# Altium integrated library ICs.IntLib: 239 symbols (part 2 of 4)
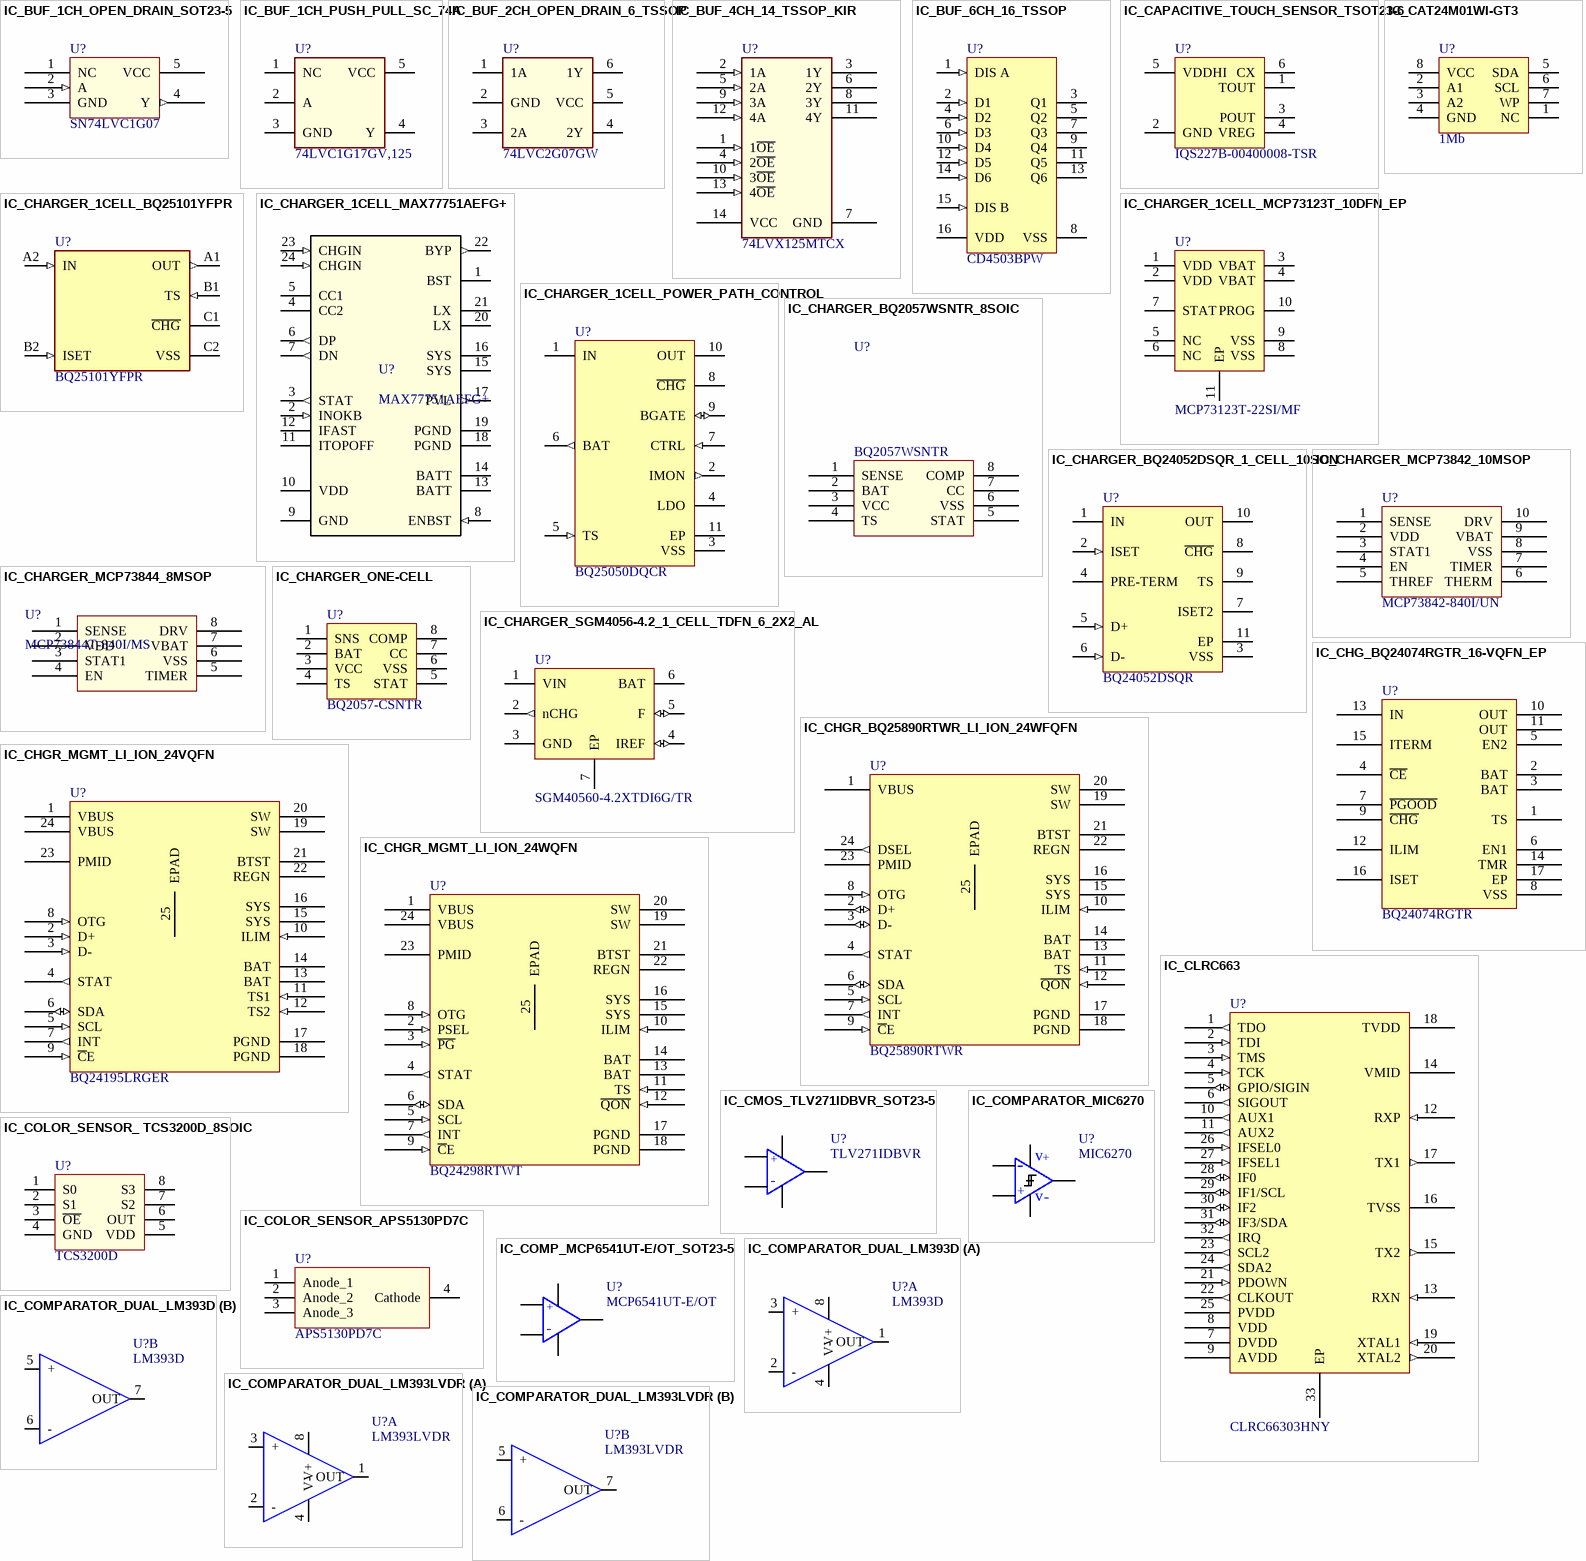
[diagram p10: symbols IC_BUF_1CH_OPEN_DRAIN_SOT23-5 to IC_COMPARATOR_MIC6270]

## IC_COMPARATOR_DUAL_LM393LVDR
designator U?, comment LM393LVDR
1.65-V TO 5.5-V, LOW VOLTAGE DUA; Manufacturer: Texas Instruments; Manufacturer Part Number: LM393LVDR; Supplier 1: Digi-Key; Supplier Part Number 1: 296-LM393LVDRCT-ND; Reel Stock: N/A; Last modified by: J.Jaramillo; Last modified date: 20240310; ComponentLink1Description: Digi-Key; ComponentLink1URL: https://www.digikey.com/en/products/detail/texas-instruments/LM393LVDR/13535466
footprint SOIC_8_3.9mm (/ 20190225 / C-A.Serna.A)
part A pins: 1 OUT, 2 -, 3 +, 4 V-, 8 V+
part B pins: 5 +, 6 -, 7 OUT

## IC_COMPARATOR_MIC6270
designator U?, comment MIC6270
IC COMPARATOR PREC 2-36V SOT23-5; Manufacturer: Microchip Technology; Manufacturer Part Number: MIC6270YM5-TR; Supplier 1: Digi-Key; Supplier Part Number 1: 576-1315-1-ND; Reel Stock: N/A; Last modified by: J.Jaramillo; Last modified date: 20240310; ComponentLink1Description: Digi-Key; ComponentLink1URL: https://www.digikey.com/products/en?keywords=576-1315-1-ND
footprint SOT_753 (SOT-23-5, SC-74A / 20190225 / C-A.Serna.A)
pins: 1 OUT (power), 2 VSS (power), 3 IN+ (power), 4 IN- (power), 5 VDD (power)
text: v; +; -

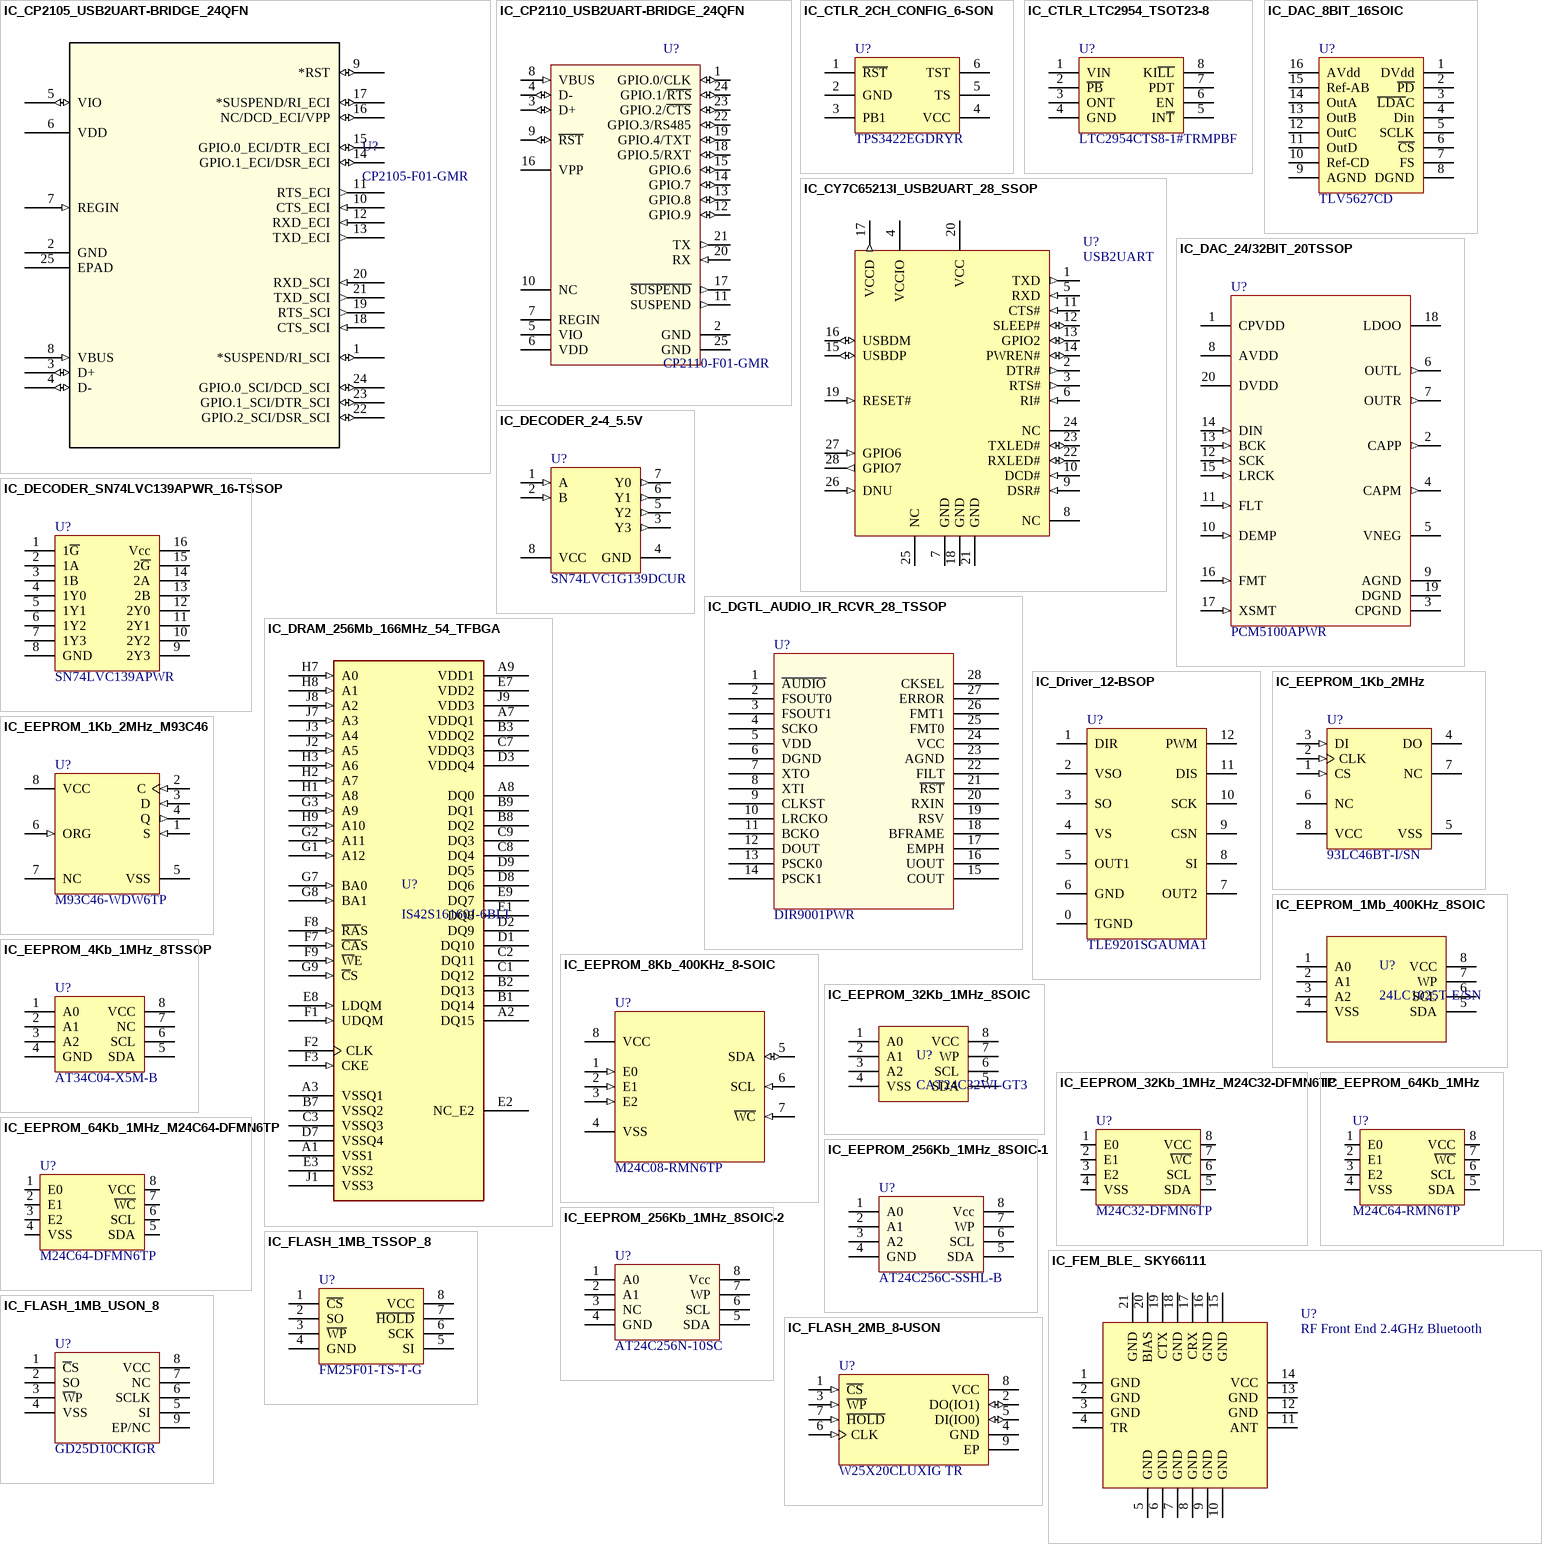
[diagram p2: symbols IC_CP2105_USB2UART-BRIDGE_24QFN to IC_FLASH_2MB_8-USON]

## IC_CP2105_USB2UART-BRIDGE_24QFN
designator U?, comment CP2105-F01-GMR
IC SGL USB-DL UART BRIDGE 24QFN; Manufacturer: Silicon Labs; Manufacturer Part Number: CP2105-F01-GMR; Supplier 1: Digi-Key; Supplier Part Number 1: CP2105-F01-GMRCT-ND; Reel Stock: N/A; Last modified by: J.Jaramillo; Last modified date: 20240310; ComponentLink1Description: Digi-Key; ComponentLink1URL: https://www.digikey.com/en/products/detail/silicon-labs/CP2105-F01-GMR/4069046?s=N4IgTCBcDaIMIAUwEYAMBWAtAMVczA4gLIBKIAugL5A
footprint QFN_24_EP_4x4MM (24-WFQFN_EP/20210809/V-A.Patino)
pins: 1 *SUSPEND/RI_SCI (io), 2 GND (power), 3 D+ (io), 4 D- (io), 5 VIO (io), 6 VDD (power), 7 REGIN (in), 8 VBUS (in), 9 *RST (io), 10 CTS_ECI (in), 11 RTS_ECI (out), 12 RXD_ECI (in), 13 TXD_ECI (out), 14 GPIO.1_ECI/DSR_ECI (io), 15 GPIO.0_ECI/DTR_ECI (io), 16 NC/DCD_ECI/VPP (io), 17 *SUSPEND/RI_ECI (io), 18 CTS_SCI (in), 19 RTS_SCI (out), 20 RXD_SCI (in), 21 TXD_SCI (out), 22 GPIO.2_SCI/DSR_SCI (io), 23 GPIO.1_SCI/DTR_SCI (io), 24 GPIO.0_SCI/DCD_SCI (io), 25 EPAD

## IC_CP2110_USB2UART-BRIDGE_24QFN
designator U?, comment CP2110-F01-GMR
IC HID USB-TO-UART BRIDGE 24QFN; Manufacturer: Silicon Labs; Manufacturer Part Number: CP2110-F01-GMR; Supplier 1: Digi-Key; Supplier Part Number 1: 336-4156-1-ND; Reel Stock: N/A; Last modified by: J.Jaramillo; Last modified date: 20240310; ComponentLink1Description: Digi-Key; ComponentLink1URL: https://www.digikey.com/en/products/detail/silicon-labs/CP2110-F01-GMR/4069049
footprint QFN_24_EP_4x4MM (24-WFQFN_EP/20210809/V-A.Patino)
pins: 1 GPIO.0/CLK (io) "In GPIO mode, this pin is a user-configurable input or output. In CLK mode, this pin outputs a configurable frequency clock signal.", 2 GND (power) "Ground. Must be tied to ground.", 3 D+ (io) "USB D+", 4 D- (io) "USB D-", 5 VIO (power) "I/O Supply Voltage Input. Internally connected to VDD on -GM1 packages.", 6 VDD (power) "Power Supply Voltage Input. Voltage Regulator Output. See Section 10.", 7 REGIN (power) "5 V Regulator Input. This pin is the input to the on-chip voltage regulator.", 8 VBUS (in) "VBUS Sense Input. This pin should be connected to the VBUS signal of a USB network.", 9 ~{RST} (io) "Device Reset. Open-drain output of internal POR or VDD monitor. An external source can initiate a system reset by driving this pin low for the time specified in Table 4.", 10 NC "No connect. This pin should be left unconnected or tied to VIO.", 11 SUSPEND (out) "This pin is logic high when the CP2110 is in the USB Suspend state.", 12 GPIO.9 (io) "This pin is a user-configurable input or output.", 13 GPIO.8 (io) "This pin is a user-configurable input or output.", 14 GPIO.7 (io) "This pin is a user-configurable input or output.", 15 GPIO.6 (io) "This pin is a user-configurable input or output.", 16 VPP "Connect 4.7 uF capacitor between this pin and ground to support ROM programming via the USB interface.", 17 ~{SUSPEND} (out) "This pin is logic low when the CP2110 is in the USB Suspend state.", 18 GPIO.5/RXT (io) "In GPIO mode, this pin is a user-configurable input or output for the Standard Comm Interface. In RXT mode, this pin is the Receive Toggle pin. The pin is logic high when the UART is not receiving data.", 19 GPIO.4/TXT (io) "In GPIO mode, this pin is a user-configurable input or output. In TXT mode, this pin is the Transmit Toggle pin and toggles to indicate UART transmission. The pin is logic high when a transmission is not in progress.", 20 RX (in) "Asynchronous data input (UART Receive) for the UART Interface.", 21 TX (out) "Asynchronous data output (UART Transmit) for the UART Interface.", 22 GPIO.3/RS485 (io) "In GPIO mode, this pin is a user-configurable input or output. In RS-485 mode, this pin is the transmit active pin for the RS-485 transceiver.", 23 GPIO.2/~{CTS} (io) "In GPIO mode, this pin is a user-configurable input or output. In hardware flow control mode, this pin is the Clear To Send control input (active low) for the UART interface.", 24 GPIO.1/~{RTS} (io) "In GPIO mode, this pin is a user-configurable input or output. In hardware flow control mode, this pin is the Ready To Send control output (active low) for the UART interface", 25 GND (power)

## IC_CTLR_2CH_CONFIG_6-SON
designator U?, comment TPS3422EGDRYR
IC CTLR PB 2CH CONFIG 6-SON; Manufacturer: Texas Instruments; Manufacturer Part Number: TPS3422EGDRYR; Supplier 1: Digi-Key; Supplier Part Number 1: 296-40740-1-ND; Reel Stock: N/A; Last modified by: J.Jaramillo; Last modified date: 20240310; ComponentLink1Description: Digi-Key; ComponentLink1URL: https://www.digikey.com/products/en?keywords=296-40740-1-ND
footprint SON_6_1.45x1MM (UFDFN_6/20210405/V-A.Patino)
pins: 1 ~{RST}, 2 GND, 3 PB1, 4 VCC, 5 TS, 6 TST

## IC_CTLR_LTC2954_TSOT23-8
designator U?, comment LTC2954CTS8-1#TRMPBF
IC PB ON/OFF CONTROLLER TSOT23-8; Manufacturer: Linear Technology/Analog Devices; Manufacturer Part Number: LTC2954CTS8-1#TRMPBF; Supplier 1: Digi-Key; Supplier Part Number 1: LTC2954CTS8-1#TRMPBFCT-ND; Reel Stock: N/A; Last modified by: J.Jaramillo; Last modified date: 20240310; ComponentLink1Description: Digi-Key; ComponentLink1URL: https://www.digikey.com/products/en?keywords=LTC2954CTS8-1%23TRMPBFCT-ND
footprint TSOT-23-8_1.8X2.9MM (SOT-23-8 Thin, TSOT-23-8/20210809/N-A.Potosi)
pins: 1 VIN, 2 ~{PB}, 3 ONT, 4 GND, 5 IN~{T}, 6 EN, 7 PDT, 8 KI~{LL}

## IC_CY7C65213I_USB2UART_28_SSOP
designator U?, comment USB2UART
IC USB-SERIAL PART 28SSOP; Manufacturer: Cypress Semiconductor Corp; Manufacturer Part Number: CY7C65213-28PVXI; Supplier 1: Digi-Key; Supplier Part Number 1: CY7C65213-28PVXI-ND; Reel Stock: N/A; Last modified by: J.Jaramillo; Last modified date: 20240310; ComponentLink1Description: Digi-Key; ComponentLink1URL: https://www.digikey.com/en/products/detail/cypress-semiconductor-corp/CY7C65213-28PVXI/4765755
footprint SSOP_28_5.3mm (/ 20210219 / M-C.Calderon)
pins: 1 TXD (out), 2 DTR# (out), 3 RTS# (out), 4 VCCIO, 5 RXD (in), 6 RI# (in), 7 GND (power), 8 NC, 9 DSR# (in), 10 DCD# (in), 11 CTS# (in), 12 SLEEP# (io), 13 GPIO2 (io), 14 PWREN# (io), 15 USBDP (io), 16 USBDM (io), 17 VCCD (out), 18 GND (power), 19 RESET# (in), 20 VCC (power), 21 GND (power), 22 RXLED# (io), 23 TXLED# (io), 24 NC, 25 NC (power), 26 DNU (in), 27 GPIO6 (in), 28 GPIO7 (out)

## IC_DAC_8BIT_16SOIC
designator U?, comment TLV5627CD
IC DAC 8BIT V-OUT 16SOIC; Manufacturer: Texas Instruments; Supplier 1: Digi-key; Supplier Part Number 1: 296-2312-5-ND; Reel Stock: N/A; Last modified by: J.Jaramillo; Last modified date: 20240310; ComponentLink1Description: Digi-key; ComponentLink1URL: https://www.digikey.com/en/products/detail/texas-instruments/TLV5627CD/306185; Manufacturer Part Number: TLV5627CD
footprint SOIC_16_3.9MM (/20201210/M-C.Calderon)
pins: 1 DVdd (power), 2 ~{PD} (power), 3 ~{LDA}C (power), 4 Din (power), 5 SCLK (power), 6 ~{CS} (power), 7 FS (power), 8 DGND (power), 9 AGND (power), 10 Ref-CD (power), 11 OutD (power), 12 OutC (power), 13 OutB (power), 14 OutA (power), 15 Ref-AB (power), 16 AVdd (power)

## IC_DAC_24/32BIT_20TSSOP
designator U?, comment PCM5100APWR
IC DAC 16/24/32BIT 384K 20TSSOP; Manufacturer: Texas Instruments; Manufacturer Part Number: PCM5100APWR; Supplier 1: Digi-Key; Supplier Part Number 1: 296-36705-1-ND; Reel Stock: N/A; Last modified by: J.Jaramillo; Last modified date: 20240310; ComponentLink1Description: Digi-Key; ComponentLink1URL: https://www.digikey.com/en/products/detail/texas-instruments/PCM5100APWR/3902405?s=N4IgTCBcDaIAoGECyBWAjABgwQTgdQCUQBdAXyA
footprint TSSOP_20_4.40MM (20210806/J-E.Pachon)
pins: 1 CPVDD (power), 2 CAPP (out), 3 CPGND (power), 4 CAPM (out), 5 VNEG (power), 6 OUTL (out), 7 OUTR (out), 8 AVDD (power), 9 AGND (power), 10 DEMP (in), 11 FLT (in), 12 SCK (in), 13 BCK (in), 14 DIN (in), 15 LRCK (in), 16 FMT (in), 17 XSMT (in), 18 LDOO (power), 19 DGND (power), 20 DVDD (power)

## IC_DECODER_2-4_5.5V
designator U?, comment SN74LVC1G139DCUR
IC 2 TO 4 LINE DECODER US8; Manufacturer: Texas Instruments; Manufacturer Part Number: SN74LVC1G139DCUR; Supplier 1: Digi-key; Supplier Part Number 1: 296-18203-1-ND; Reel Stock: N/A; Last modified by: J.Jaramillo; Last modified date: 20240310; ComponentLink1Description: Digi-key; ComponentLink1URL: https://www.digikey.com/product-detail/en/texas-instruments/SN74LVC1G139DCUR/296-18203-1-ND/772127
footprint VSSOP_8_2.3X2.0mm_N (US8 / 20190912/ C-D Viveros)
pins: 1 A (in), 2 B (in), 3 Y3 (out), 4 GND (power), 5 Y2 (out), 6 Y1 (out), 7 Y0 (out), 8 VCC (power)

## IC_DECODER_SN74LVC139APWR_16-TSSOP
designator U?, comment SN74LVC139APWR
IC DECODER/DEMUX 1X2:4 16TSSOP; Manufacturer: Texas Instruments; Manufacturer Part Number: SN74LVC139APWR; Supplier 1: Digi-Key; Supplier Part Number 1: 296-8462-1-ND; Reel Stock: N/A; Last modified by: J.Jaramillo; Last modified date: 20240310; ComponentLink1Description: Digi-Key; ComponentLink1URL: https://www.digikey.com/en/products/detail/texas-instruments/SN74LVC139APWR/377428?s=N4IgTCBcDa4JwDYC0AOALAsSCMSByAIiALoC%2BQA
footprint TSSOP_16_4.40MM (/ 20190923 / C-D Viveros)
pins: 1 1~{G}, 2 1A, 3 1B, 4 1Y0, 5 1Y1, 6 1Y2, 7 1Y3, 8 GND, 9 2Y3, 10 2Y2, 11 2Y1, 12 2Y0, 13 2B, 14 2A, 15 2~{G}, 16 Vcc

## IC_DGTL_AUDIO_IR_RCVR_28_TSSOP
designator U?, comment DIR9001PWR
IC AUDIO RECEIVER 28TSSOP; Manufacturer: Texas Instruments; Manufacturer Part Number: DIR9001PWR; Supplier 1: Digi-Key; Supplier Part Number 1: 296-38926-1-ND; Reel Stock: N/A; Last modified by: J.Jaramillo; Last modified date: 20240310; ComponentLink1Description: Digi-Key; ComponentLink1URL: https://www.digikey.com/en/products/detail/texas-instruments/DIR9001PWR/1898367?s=N4IgTCBcDa4JwDYC0BmAHHMyCMSByAIiALoC%2BQA
footprint TSSOP_28_4.40MM (28-TSSOP 4.40mm,MO-153 /20210809/ N-A.Potosi)
pins: 1 ~{AUDIO}, 2 FSOUT0, 3 FSOUT1, 4 SCKO, 5 VDD, 6 DGND, 7 XTO, 8 XTI, 9 CLKST, 10 LRCKO, 11 BCKO, 12 DOUT, 13 PSCK0, 14 PSCK1, 15 COUT, 16 UOUT, 17 EMPH, 18 BFRAME, 19 RSV, 20 RXIN, 21 ~{RST}, 22 FILT, 23 AGND, 24 VCC, 25 FMT0, 26 FMT1, 27 ERROR, 28 CKSEL

## IC_DRAM_256Mb_166MHz_54_TFBGA
designator U?, comment IS42S16160J-6BLI
IC DRAM 256MBIT PAR 54TFBGA; Manufacturer: ISSI, Integrated Silicon Solution Inc; Reel Stock: N/A; Last modified by: J.Jaramillo; Last modified date: 20240310; Supplier 1: Digi-Key; Manufacturer Part Number: IS42S16160J-6BLI; Supplier Part Number 1: IS42S16160J-6BLI-ND; ComponentLink1Description: Digi-Key; ComponentLink1URL: https://www.digikey.com/en/products/detail/issi-integrated-silicon-solution-inc/IS42S16160J-6BLI/5319786
footprint TFBGA-54_8x85mm (/20230731/N-A.Potosi)
pins: A1 VSS1, A2 DQ15, A3 VSSQ1, A7 VDDQ1, A8 DQ0, A9 VDD1, B1 DQ14, B2 DQ13, B3 VDDQ2, B7 VSSQ2, B8 DQ2, B9 DQ1, C1 DQ12, C2 DQ11, C3 VSSQ3, C7 VDDQ3, C8 DQ4, C9 DQ3, D1 DQ10, D2 DQ9, D3 VDDQ4, D7 VSSQ4, D8 DQ6, D9 DQ5, E1 DQ8, E2 NC_E2, E3 VSS2, E7 VDD2, E8 LDQM (in), E9 DQ7, F1 UDQM (in), F2 CLK, F3 CKE (in), F7 ~{CA}S (in), F8 ~{RA}S (in), F9 ~{W}E (in), G1 A12 (in), G2 A11 (in), G3 A9 (in), G7 BA0 (in), G8 BA1 (in), G9 ~{C}S (in), H1 A8 (in), H2 A7 (in), H3 A6 (in), H7 A0 (in), H8 A1 (in), H9 A10 (in), J1 VSS3, J2 A5 (in), J3 A4 (in), J7 A3 (in), J8 A2 (in), J9 VDD3

## IC_Driver_12-BSOP
designator U?, comment TLE9201SGAUMA1
IC DRIVER 12DSO; Manufacturer: Infineon Technologies; Manufacturer Part Number: TLE9201SGAUMA1; Supplier 1: Digi-Key; Supplier Part Number 1: TLE9201SGAUMA1CT-ND; Reel Stock: N/A; Last modified by: J.Jaramillo; Last modified date: 20240310; ComponentLink1Description: Digi-Key; ComponentLink1URL: https://www.digikey.com/en/products/detail/infineon-technologies/TLE9201SGAUMA1/5960696?s=N4IgTCBcDaICoBkCiBOMAGAjAZQOIgF0BfIA
footprint 12BSOP_7.5MM (/20220808/J-E.Pachon)
pins: 0 TGND, 1 DIR, 2 VSO, 3 SO, 4 VS, 5 OUT1, 6 GND, 7 OUT2, 8 SI, 9 CSN, 10 SCK, 11 DIS, 12 PWM

## IC_EEPROM_1Kb_2MHz
designator U?, comment 93LC46BT-I/SN
IC EEPROM 1K SPI 2MHZ 8SOIC; Manufacturer: Microchip Technology; Reel Stock: N/A; Last modified by: J.Jaramillo; Last modified date: 20240310; Supplier 1: Digi-Key; Manufacturer Part Number: 93LC46BT-I/SN; Supplier Part Number 1: 93LC46BT-I/SNCT-ND; ComponentLink1Description: Digi-Key; ComponentLink1URL: https://www.digikey.com/en/products/detail/microchip-technology/93LC46BT-I-SN/319160?s=N4IgTCBcDaIJwGYAyBhALANgEIBUC0AkgPQDKAcivmQCIgC6AvkA
footprint SOIC_8_3.9mm (/ 20190225 / C-A.Serna.A)
pins: 1 CS (in), 2 CLK (in), 3 DI (in), 4 DO (hiz), 5 VSS (power), 6 NC, 7 NC, 8 VCC (power)

## IC_EEPROM_1Kb_2MHz_M93C46
designator U?, comment M93C46-WDW6TP
IC EEPROM 1KBIT SPI 2MHZ 8TSSOP; Manufacturer: STMicroelectronics; Reel Stock: N/A; Last modified by: J.Jaramillo; Last modified date: 20240310; Supplier 1: Digi-Key; Manufacturer Part Number: M93C46-WDW6TP; Supplier Part Number 1: 497-8655-1-ND; ComponentLink1Description: Digi-Key; ComponentLink1URL: https://www.digikey.com/en/products/detail/stmicroelectronics/M93C46-WDW6TP/1664121
footprint TSSOP_8_4.40MM (/ 20210809 / C-D Viveros)
pins: 1 S (in), 2 C (in), 3 D (in), 4 Q (out), 5 VSS (power), 6 ORG (in), 7 NC, 8 VCC (power)

## IC_EEPROM_1Mb_400KHz_8SOIC
designator U?, comment 24LC1025T-E/SN
IC EEPROM 1MBIT I2C 400KHZ 8SOIC; Manufacturer: Microchip Technology; Manufacturer Part Number: 24LC1025T-E/SN; Supplier 1: Digi-Key; Supplier Part Number 1: 24LC1025T-E/SNCT-ND; Reel Stock: N/A; Last modified by: J.Jaramillo; Last modified date: 20240310; ComponentLink1Description: Digi-Key; ComponentLink1URL: https://www.digikey.com/en/products/detail/microchip-technology/24LC1025T-E-SN/2665091
footprint SOIC_8_3.9mm (/ 20190225 / C-A.Serna.A)
pins: 1 A0 (power), 2 A1 (power), 3 A2 (power), 4 VSS (power), 5 SDA (power), 6 SCL (power), 7 WP (power), 8 VCC (power)

## IC_EEPROM_4Kb_1MHz_8TSSOP
designator U?, comment AT34C04-X5M-B
IC EEPROM 4KBIT I2C 1MHZ 8TSSOP; Manufacturer: Microchip Technology; Reel Stock: N/A; Last modified by: J.Jaramillo; Last modified date: 20240310; Supplier 1: Digi-Key; Manufacturer Part Number: AT34C04-X5M-B; Supplier Part Number 1: AT34C04-X5M-B-ND; ComponentLink1Description: Digi-Key; ComponentLink1URL: https://www.digikey.com/en/products/detail/microchip-technology/AT34C04-X5M-B/6829330?s=N4IgTCBcDaIIIBUDMAWAwgBhQWgBoFYBZbAIWwDkAREAXQF8g
footprint TSSOP_8_4.40MM (/ 20210809 / C-D Viveros)
pins: 1 A0, 2 A1, 3 A2, 4 GND, 5 SDA, 6 SCL, 7 NC, 8 VCC

## IC_EEPROM_8Kb_400KHz_8-SOIC
designator U?, comment M24C08-RMN6TP
IC EEPROM 8KBIT I2C 400KHZ 8SO; Manufacturer: STMicroelectronics; Manufacturer Part Number: M24C08-RMN6TP; Supplier 1: Digi-Key; Supplier Part Number 1: 497-8637-1-ND; Reel Stock: N/A; Last modified by: J.Jaramillo; Last modified date: 20240310; ComponentLink1Description: Digi-Key; ComponentLink1URL: https://www.digikey.com/en/products/detail/stmicroelectronics/M24C08-RMN6TP/1663582?s=N4IgTCBcDaICwE4DsBaAHANgMyoIwoDkAREAXQF8g
footprint SOIC_8_3.9mm (/ 20190225 / C-A.Serna.A)
pins: 1 E0 (in), 2 E1 (in), 3 E2 (in), 4 VSS, 5 SDA (io), 6 SCL (in), 7 ~{WC} (in), 8 VCC (power)

## IC_EEPROM_32Kb_1MHz_8SOIC
designator U?, comment CAT24C32WI-GT3
IC EEPROM 32KBIT I2C 1MHZ 8SOIC; Manufacturer: onsemi; Manufacturer Part Number: CAT24C32WI-GT3; Supplier 1: Digi-Key; Supplier Part Number 1: CAT24C32WI-GT3CT-ND; Reel Stock: N/A; Last modified by: J.Jaramillo; Last modified date: 20240310; ComponentLink1Description: Digi-Key; ComponentLink1URL: https://www.digikey.com/en/products/detail/onsemi/CAT24C32WI-GT3/1631007
footprint SOIC_8_3.9mm (/ 20190225 / C-A.Serna.A)
pins: 1 A0 (power), 2 A1 (power), 3 A2 (power), 4 VSS (power), 5 SDA (power), 6 SCL (power), 7 WP (power), 8 VCC (power)

## IC_EEPROM_32Kb_1MHz_M24C32-DFMN6TP
designator U?, comment M24C32-DFMN6TP
IC EEPROM 32KBIT I2C 1MHZ 8SOIC; Manufacturer: STMicroelectronics; Reel Stock: N/A; Last modified by: J.Jaramillo; Last modified date: 20240310; Supplier 1: Digi-Key; Manufacturer Part Number: M24C32-DFMN6TP; Supplier Part Number 1: 497-15755-1-ND; ComponentLink1Description: Digi-Key; ComponentLink1URL: https://www.digikey.com/en/products/detail/stmicroelectronics/M24C32-DFMN6TP/4357387?s=N4IgTCBcDaILJgCwGEDMYC0ARAYnAcgGwAqACiALoC%2BQA
footprint SOIC_8_3.9mm (/ 20190225 / C-A.Serna.A)
pins: 1 E0, 2 E1, 3 E2, 4 VSS, 5 SDA, 6 SCL, 7 ~{WC}, 8 VCC

## IC_EEPROM_64Kb_1MHz
designator U?, comment M24C64-RMN6TP
IC EEPROM 64KBIT I2C 1MHZ 8SO; Manufacturer: STMicroelectronics; Reel Stock: N/A; Last modified by: J.Jaramillo; Last modified date: 20240310; Supplier 1: Digi-Key; Manufacturer Part Number: M24C64-RMN6TP; Supplier Part Number 1: 497-8648-1-ND; ComponentLink1Description: Digi-Key; ComponentLink1URL: https://www.digikey.com/en/products/detail/stmicroelectronics/M24C64-RMN6TP/1663609
footprint SOIC_8_3.9mm (/ 20190225 / C-A.Serna.A)
pins: 1 E0, 2 E1, 3 E2, 4 VSS, 5 SDA, 6 SCL, 7 ~{WC}, 8 VCC

## IC_EEPROM_64Kb_1MHz_M24C64-DFMN6TP
designator U?, comment M24C64-DFMN6TP
IC EEPROM 64KBIT I2C 1MHZ 8SO; Manufacturer: STMicroelectronics; Reel Stock: N/A; Last modified by: J.Jaramillo; Last modified date: 20240310; Supplier 1: Digi-Key; Manufacturer Part Number: M24C64-DFMN6TP; Supplier Part Number 1: 497-16055-1-ND; ComponentLink1Description: Digi-Key; ComponentLink1URL: https://www.digikey.com/en/products/detail/stmicroelectronics/M24C64-DFMN6TP/3087706?s=N4IgTCBcDaILJgCwGEBsiC0ARAYnAcqgCoAKIAugL5A
footprint SOIC_8_3.9mm (/ 20190225 / C-A.Serna.A)
pins: 1 E0, 2 E1, 3 E2, 4 VSS, 5 SDA, 6 SCL, 7 ~{WC}, 8 VCC

## IC_EEPROM_256Kb_1MHz_8SOIC-1
designator U?, comment AT24C256C-SSHL-B
IC EEPROM 256KBIT I2C 1MHZ 8SOIC; Manufacturer: Microchip Technology; Supplier 1: Digi-key; Supplier Part Number 1: AT24C256C-SSHL-B-ND; Reel Stock: N/A; Last modified by: J.Jaramillo; Last modified date: 20240310; ComponentLink1Description: Digi-key; ComponentLink1URL: https://www.digikey.com/en/products/detail/microchip-technology/AT24C256C-SSHL-B/2271121?s=N4IgTCBcDaIIIBUwBYDCYCsA2VBaAyvgBIAyuAQiALoC%2BQA; Manufacturer Part Number: AT24C256C-SSHL-B
footprint SOIC_8_3.9mm (/ 20190225 / C-A.Serna.A)
pins: 1 A0, 2 A1, 3 A2, 4 GND, 5 SDA, 6 SCL, 7 WP, 8 Vcc

## IC_EEPROM_256Kb_1MHz_8SOIC-2
designator U?, comment AT24C256N-10SC
IC EEPROM 256KBIT I2C 1MHZ 8SOIC; Manufacturer: Microchip Technology; Supplier 1: Digi-key; Supplier Part Number 1: AT24C256N-10SC-ND; Reel Stock: N/A; Last modified by: J.Jaramillo; Last modified date: 20240310; ComponentLink1Description: Digi-key; ComponentLink1URL: https://www.digikey.com/en/products/detail/microchip-technology/AT24C256N-10SC/398093; Manufacturer Part Number: AT24C256N-10SC
footprint SOIC_8_3.9mm (/ 20190225 / C-A.Serna.A)
pins: 1 A0, 2 A1, 3 NC, 4 GND, 5 SDA, 6 SCL, 7 WP, 8 Vcc

## IC_FEM_BLE_ SKY66111
designator U?, comment RF Front End 2.4GHz Bluetooth
IC FEM BLE 2.4GHZ 20MCM; Manufacturer: Skyworks Solutions Inc.; Manufacturer Part Number: SKY66111-11; Supplier 1: Digi-key; Supplier Part Number 1: 863-1802-1-ND; Reel Stock: N/A; Last modified by: J.Jaramillo; Last modified date: 20240310; ComponentLink1Description: Digi-key; ComponentLink1URL: https://www.digikey.com/products/en?keywords=863-1802-1-ND
footprint QFN_20_3x3.3MM (/20200727/M-C.Calderon)
pins: 1 GND, 2 GND, 3 GND, 4 TR, 5 GND, 6 GND, 7 GND, 8 GND, 9 GND, 10 GND, 11 ANT, 12 GND, 13 GND, 14 VCC, 15 GND, 16 GND, 17 CRX, 18 GND, 19 CTX, 20 BIAS, 21 GND

## IC_FLASH_1MB_TSSOP_8
designator U?, comment FM25F01-TS-T-G
Non-Volatile FLASH 1Mb (128K x 8) SPI - Dual I/O TSSOP-8 FLASH RoHS; Manufacturer: FUDAN MICRO; Manufacturer Part Number: FM25F01-TS-T-G; Supplier 1: LCSC; Supplier Part Number 1: C250846; Reel Stock: N/A; Last modified by: J.Jaramillo; Last modified date: 20240310; ComponentLink1Description: LCSC; ComponentLink1URL: https://lcsc.com/product-detail/FLASH_FUDAN-MICRO-FM25F01-TS-T-G_C250846.html
footprint TSSOP_8_4.40MM (/ 20210809 / C-D Viveros)
pins: 1 ~{CS}, 2 SO, 3 ~{WP}, 4 GND, 5 SI, 6 SCK, 7 ~{HOLD}, 8 VCC

## IC_FLASH_1MB_USON_8
designator U?, comment GD25D10CKIGR
IC FLASH 1MBIT SPI/DUAL 8USON; Manufacturer: GigaDevice Semiconductor (HK) Limited; Manufacturer Part Number: GD25D10CKIGR; Supplier 1: Digi-key; Supplier Part Number 1: 1970-1086-1-ND; Reel Stock: N/A; Last modified by: J.Jaramillo; Last modified date: 20240310; ComponentLink1Description: New link; ComponentLink1URL: https://www.digikey.com/en/products/detail/gigadevice-semiconductor-hk-limited/GD25D10CKIGR/9598057?s=N4IgTCBcDaIAQHEAiYCsSCMAGAwgaQEkEAlEAXQF8g
footprint USON_8_EP_1.5x1.5mm (/20210809/V-A.Patino)
pins: 1 ~{C}S, 2 SO, 3 ~{W}P, 4 VSS, 5 SI, 6 SCLK, 7 NC, 8 VCC, 9 EP/NC

## IC_FLASH_2MB_8-USON
designator U?, comment W25X20CLUXIG TR
IC FLASH 2MBIT SPI 104MHZ 8USON; Manufacturer: Winbond Electronics; Manufacturer Part Number: W25X20CLUXIG TR; Supplier 1: Digi-Key; Supplier Part Number 1: W25X20CLUXIGCT-ND; Reel Stock: N/A; Last modified by: J.Jaramillo; Last modified date: 20240310; ComponentLink1Description: Digi-Key; ComponentLink1URL: https://www.digikey.com/en/products/detail/winbond-electronics/W25X20CLUXIG-TR/5155063?s=N4IgTCBcDaIOpgKwA0wAYDCAZAqsgkgOIgC6AvkA
footprint UFDFN_8_2x3MM_EP (USON-8 / 20220718 / E.Naranjo)
pins: 1 ~{CS} (in), 2 DO(IO1) (io), 3 ~{WP} (in), 4 GND (power), 5 DI(IO0) (io), 6 CLK (in), 7 ~{HOLD} (in), 8 VCC (power), 9 EP

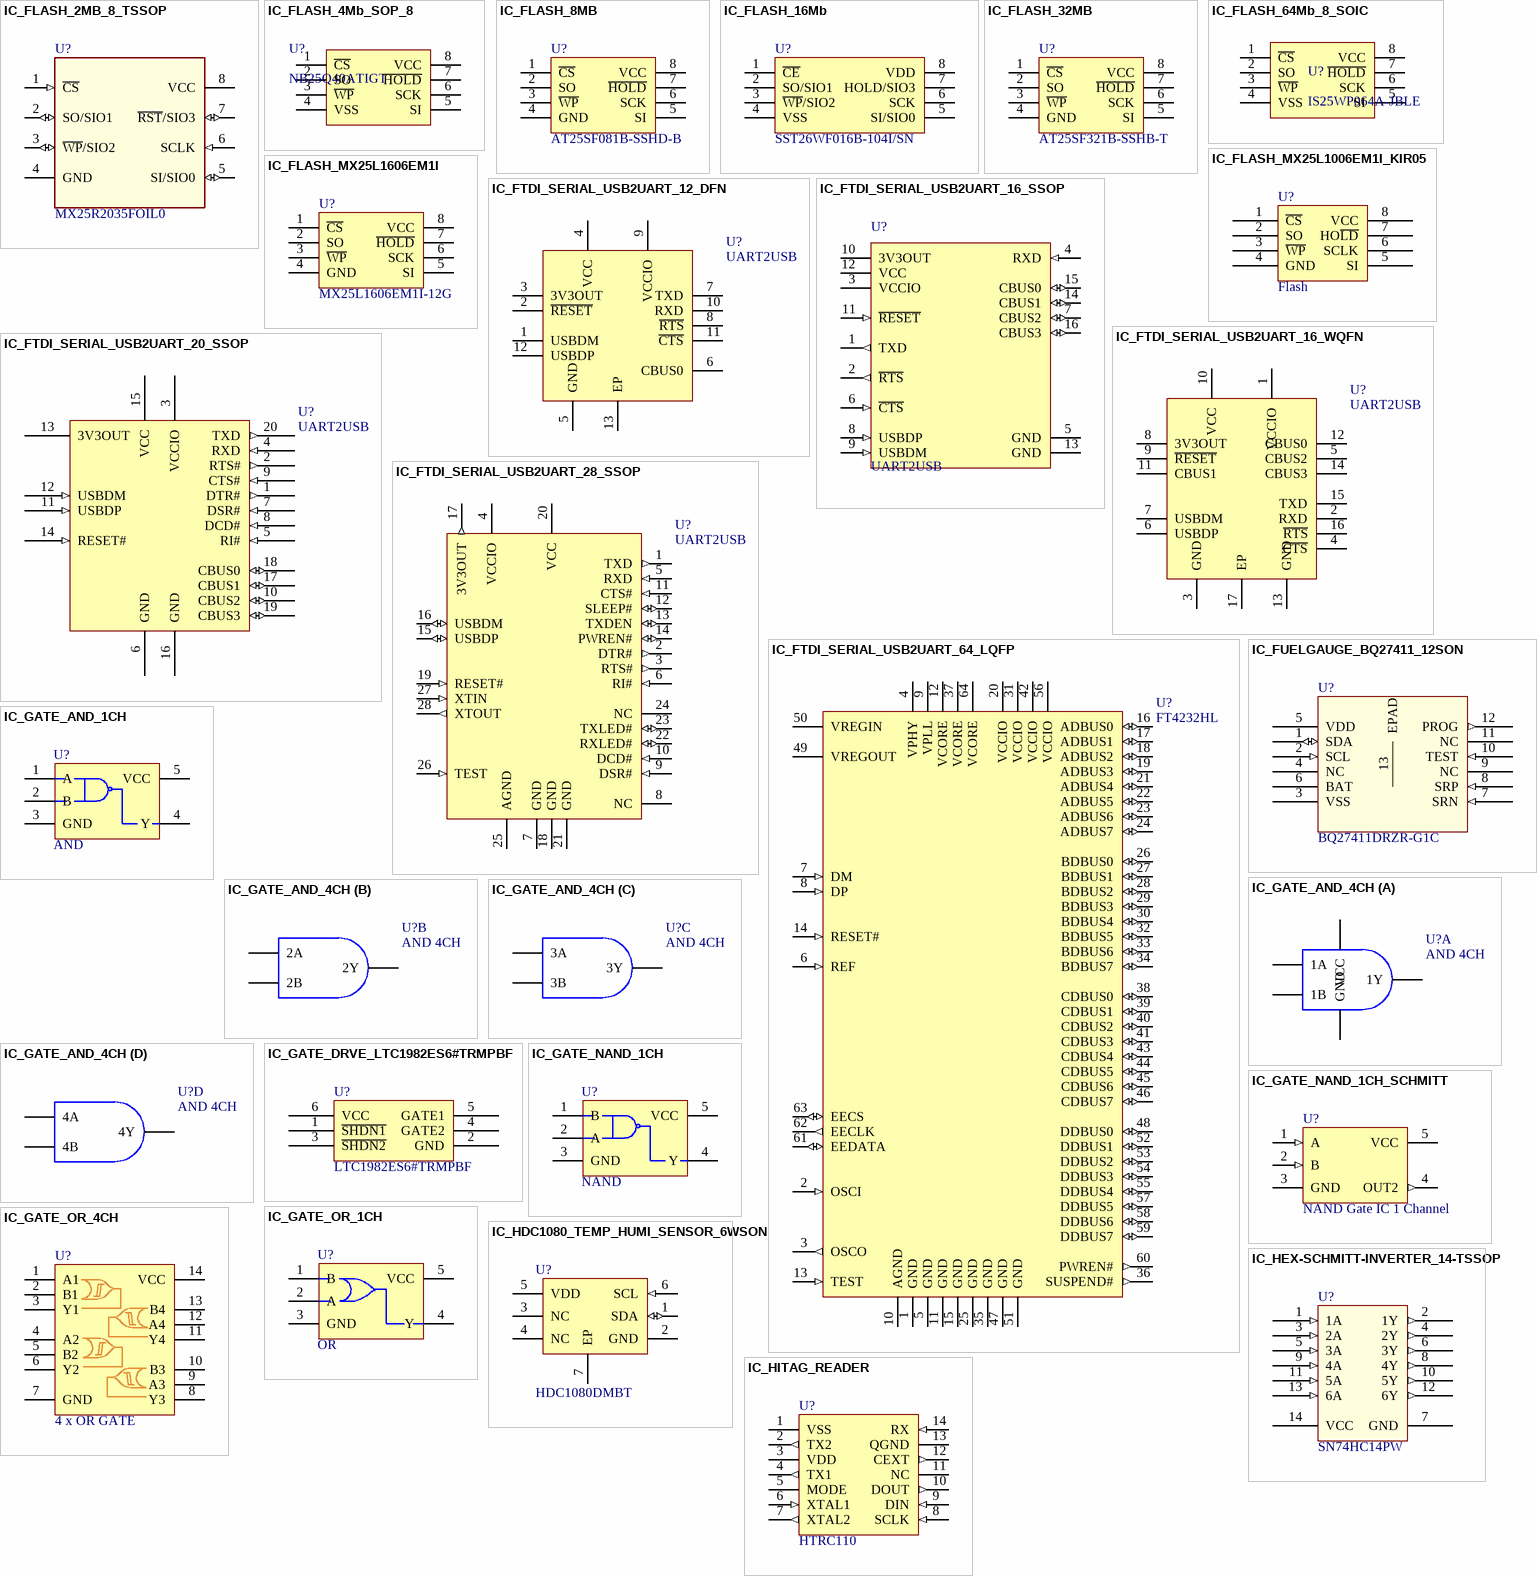
[diagram p3: symbols IC_FLASH_2MB_8_TSSOP to IC_HITAG_READER]

## IC_FLASH_2MB_8_TSSOP
designator U?, comment MX25R2035FOIL0
IC FLASH 2MBIT SPI/QUAD 8TSSOP; Manufacturer: Macronix; Manufacturer Part Number: MX25R2035FOIL0; Supplier 1: Digi-Key; Supplier Part Number 1: MX25R2035FOIL0-ND; Reel Stock: N/A; Last modified by: J.Jaramillo; Last modified date: 20240310; ComponentLink1Description: Digi-Key; ComponentLink1URL: https://www.digikey.com/en/products/detail/macronix/MX25R2035FOIL0/7915031?s=N4IgTCBcDaILIA0wFYBKYAMBmZAxA8gJIAyGIAugL5A
footprint TSSOP_8_4.40MM (/ 20210809 / C-D Viveros)
pins: 1 ~{CS} (in), 2 SO/SIO1 (io), 3 ~{WP}/SIO2 (io), 4 GND, 5 SI/SIO0 (io), 6 SCLK (in), 7 ~{RST}/SIO3 (io), 8 VCC (power)

## IC_FLASH_4Mb_SOP_8
designator U?, comment NB25Q40ATIGT
SOP-8 NOR FLASH ROHS; Manufacturer: Zetta; Manufacturer Part Number: NB25Q40ATIGT; Supplier 1: LCSC; Supplier Part Number 1: C5360474; Reel Stock: N/A; Last modified by: J.Jaramillo; Last modified date: 20240310; ComponentLink1Description: LCSC; ComponentLink1URL: https://www.lcsc.com/product-detail/NOR-span-style-background-color-ff0-FLASH-span_Zetta-NB25Q40ATIGT_C5360474.html
footprint SOIC_8_3.9mm (/ 20190225 / C-A.Serna.A)
pins: 1 ~{CS}, 2 SO, 3 ~{WP}, 4 VSS, 5 SI, 6 SCK, 7 ~{HOLD}, 8 VCC

## IC_FLASH_8MB
designator U?, comment AT25SF081B-SSHD-B
IC FLASH 8MBIT SPI QUAD 8SOIC; Manufacturer: Adesto Technologies; Manufacturer Part Number: AT25SF081B-SSHD-B; Supplier 1: Digi-Key; Supplier Part Number 1: 1265-AT25SF081B-SSHD-B-ND; Reel Stock: N/A; Last modified by: J.Jaramillo; Last modified date: 20240310; ComponentLink1Description: Digi-key; ComponentLink1URL: https://www.digikey.com/en/products/detail/adesto-technologies/AT25SF321B-SSHB-T/10280630
footprint SOIC_8_3.9mm (/ 20190225 / C-A.Serna.A)
pins: 1 ~{CS}, 2 SO, 3 ~{WP}, 4 GND, 5 SI, 6 SCK, 7 ~{HOLD}, 8 VCC

## IC_FLASH_16Mb
designator U?, comment SST26WF016B-104I/SN
IC FLASH 16MBIT SPI/QUAD 8SOIC; Manufacturer: Microchip Technology; Manufacturer Part Number: SST26WF016B-104I/SN; Supplier 1: Digi-Key; Supplier Part Number 1: SST26WF016B-104I/SN-ND; Reel Stock: N/A; Last modified by: J.Jaramillo; Last modified date: 20240310; ComponentLink1Description: Digi-key; ComponentLink1URL: https://www.digikey.com/en/products/detail/microchip-technology/SST26WF016B-104I-SN/5033669?s=N4IgTCBcDaIMpwCpgGwHUBiAGAjCgQgLQ5YAsAkgPRwByIAugL5A
footprint SOIC_8_3.9mm (/ 20190225 / C-A.Serna.A)
pins: 1 ~{CE}, 2 SO/SIO1, 3 ~{WP}/SIO2, 4 VSS, 5 SI/SIO0, 6 SCK, 7 HOLD/SIO3, 8 VDD

## IC_FLASH_32MB
designator U?, comment AT25SF321B-SSHB-T
IC FLASH 32MBIT SPI/QUAD 8SOIC; Manufacturer: Adesto Technologies; Manufacturer Part Number: AT25SF321B-SSHB-T; Supplier 1: Digi-Key; Supplier Part Number 1: 1265-AT25SF321B-SSHB-TCT-ND; Reel Stock: N/A; Last modified by: J.Jaramillo; Last modified date: 20240310; ComponentLink1Description: Digi-key; ComponentLink1URL: https://www.digikey.com/en/products/detail/adesto-technologies/AT25SF321B-SSHB-T/10280630
footprint SOIC_8_3.9mm (/ 20190225 / C-A.Serna.A)
pins: 1 ~{CS}, 2 SO, 3 ~{WP}, 4 GND, 5 SI, 6 SCK, 7 ~{HOLD}, 8 VCC

## IC_FLASH_64Mb_8_SOIC
designator U?, comment IS25WP064A-JBLE
IC FLASH 64MBIT SPI/QUAD 8SOIC; Manufacturer: ISSI, Integrated Silicon Solution Inc; Manufacturer Part Number: IS25WP064A-JBLE; Supplier 1: Digi-Key; Supplier Part Number 1: 706-1590-ND; Reel Stock: N/A; Last modified by: J.Jaramillo; Last modified date: 20240310; ComponentLink1Description: Digi-Key; ComponentLink1URL: https://www.digikey.com/en/products/detail/issi-integrated-silicon-solution-inc/IS25WP064A-JBLE/7221227
footprint SOIC_8_5.3mm (/ 20230822 /N-A.Potosi)
pins: 1 ~{CS}, 2 SO, 3 ~{WP}, 4 VSS, 5 SI, 6 SCK, 7 ~{HOLD}, 8 VCC

## IC_FLASH_MX25L1006EM1I_KIR05
designator U?, comment Flash
IC FLASH 1M SPI 104MHZ 8SOP; Manufacturer: Macronix; Manufacturer Part Number: MX25L1006EMI-10G; Supplier 1: Digi-Key; Supplier Part Number 1: 1092-1111-ND; Reel Stock: N/A; Last modified by: J.Jaramillo; Last modified date: 20240310; ComponentLink1Description: Digi-key; ComponentLink1URL: https://www.digikey.com/product-detail/en/macronix/MX25L1006EMI-10G/1092-1111-ND/2744794
footprint SOIC_8_3.9mm (/ 20190225 / C-A.Serna.A)
pins: 1 ~{CS}, 2 SO, 3 ~{WP}, 4 GND, 5 SI, 6 SCLK, 7 HO~{LD}, 8 VCC

## IC_FLASH_MX25L1606EM1I
designator U?, comment MX25L1606EM1I-12G
IC FLASH 16M SPI 86MHZ 8SOP; Manufacturer: Macronix; Manufacturer Part Number: MX25L1606EM1I-12G; Supplier 1: Digi-Key; Supplier Part Number 1: 1092-1122-ND; Reel Stock: N/A; Last modified by: J.Jaramillo; Last modified date: 20240310; ComponentLink1Description: Digi-key; ComponentLink1URL: https://www.digikey.com/products/en?keywords=1092-1122-ND
footprint SOIC_8_3.9mm (/ 20190225 / C-A.Serna.A)
pins: 1 ~{CS}, 2 SO, 3 ~{WP}, 4 GND, 5 SI, 6 SCK, 7 ~{HOLD}, 8 VCC

## IC_FTDI_SERIAL_USB2UART_12_DFN
designator U?, comment UART2USB
IC USB SERIAL UART 12DFN; Manufacturer: FTDI, Future Technology Devices International Ltd; Manufacturer Part Number: FT234XD-T; Supplier 1: Digi-Key; Supplier Part Number 1: 768-1345-ND; Reel Stock: N/A; Last modified by: J.Jaramillo; Last modified date: 20240310; ComponentLink1Description: Digi-Key; ComponentLink1URL: https://www.digikey.com/en/products/detail/ftdi-future-technology-devices-international-ltd/FT234XD-T/3904810
footprint 12-VFDFN_EP_3X3MM (/20210809/J-E.Pachon)
pins: 1 USBDM, 2 ~{RESET}, 3 3V3OUT, 4 VCC (power), 5 GND (power), 6 CBUS0, 7 TXD, 8 ~{RTS}, 9 VCCIO, 10 RXD, 11 ~{CTS}, 12 USBDP, 13 EP (power)

## IC_FTDI_SERIAL_USB2UART_16_SSOP
designator U?, comment UART2USB
IC USB SERIAL BASIC UART 16SSOP; Manufacturer: FTDI, Future Technology Devices International Ltd; Manufacturer Part Number: FT230XS-R; Supplier 1: Digi-Key; Supplier Part Number 1: 768-1135-1-ND; Reel Stock: N/A; Last modified by: J.Jaramillo; Last modified date: 20240310; ComponentLink1Description: Digi-Key; ComponentLink1URL: https://www.digikey.com/en/products/detail/ftdi-future-technology-devices-international-ltd/FT230XS-R/3029141
footprint SSOP_16_3.9x5.0MM_N (/ 20210218 / N-A.Potosi)
pins: 1 TXD (out), 2 ~{RTS} (out), 3 VCCIO (power), 4 RXD (in), 5 GND (power), 6 ~{CTS} (in), 7 CBUS2 (io), 8 USBDP (in), 9 USBDM (in), 10 3V3OUT (power), 11 ~{RESET} (in), 12 VCC (power), 13 GND (power), 14 CBUS1 (io), 15 CBUS0 (io), 16 CBUS3 (io)

## IC_FTDI_SERIAL_USB2UART_16_WQFN
designator U?, comment UART2USB
IC USB SERIAL BASIC UART 16QFN; Manufacturer: FTDI, Future Technology Devices International Ltd; Manufacturer Part Number: FT230XQ-R; Supplier 1: Digi-Key; Supplier Part Number 1: 768-1130-1-ND; Reel Stock: N/A; Last modified by: J.Jaramillo; Last modified date: 20240310; ComponentLink1Description: Digi-Key; ComponentLink1URL: https://www.digikey.com/product-detail/en/ftdi-future-technology-devices-international-ltd/FT230XQ-R/768-1130-1-ND/3029158
footprint WQFN_16_4X4MM_EP (16-QFN/20190329/J-P.Vargas.A)
pins: 1 VCCIO, 2 RXD, 3 GND (power), 4 ~{CTS}, 5 CBUS2, 6 USBDP, 7 USBDM, 8 3V3OUT, 9 ~{RESET}, 10 VCC (power), 11 CBUS1, 12 CBUS0, 13 GND (power), 14 CBUS3, 15 TXD, 16 ~{RTS}, 17 EP (power)

## IC_FTDI_SERIAL_USB2UART_20_SSOP
designator U?, comment UART2USB
IC USB SERIAL FULL UART 20SSOP; Manufacturer: FTDI, Future Technology Devices International Ltd; Manufacturer Part Number: FT231XS-R; Supplier 1: Digi-Key; Supplier Part Number 1: 768-1129-1-ND; Reel Stock: N/A; Last modified by: J.Jaramillo; Last modified date: 20240310; ComponentLink1Description: Digi-Key; ComponentLink1URL: https://www.digikey.com/en/products/detail/ftdi-future-technology-devices-international-ltd/FT231XS-R/3029139
footprint SSOP_20_3.9mm (20-SSOP/ 20220531 / N-A.Potosi)
pins: 1 DTR# (out), 2 RTS# (out), 3 VCCIO (power), 4 RXD (in), 5 RI# (in), 6 GND (power), 7 DSR# (in), 8 DCD# (in), 9 CTS# (in), 10 CBUS2 (io), 11 USBDP (in), 12 USBDM (in), 13 3V3OUT (power), 14 RESET# (in), 15 VCC (power), 16 GND (power), 17 CBUS1 (io), 18 CBUS0 (io), 19 CBUS3 (io), 20 TXD (out)

## IC_FTDI_SERIAL_USB2UART_28_SSOP
designator U?, comment UART2USB
IC USB FS SERIAL UART 28-SSOP; Manufacturer: FTDI, Future Technology Devices International Ltd; Manufacturer Part Number: FT232RL-REEL; Supplier 1: Digi-Key; Supplier Part Number 1: 768-1007-1-ND; Reel Stock: N/A; Last modified by: J.Jaramillo; Last modified date: 20240310; ComponentLink1Description: Digi-Key; ComponentLink1URL: https://www.digikey.com/product-detail/en/ftdi-future-technology-devices-international-ltd/FT232RL-REEL/768-1007-1-ND/1836402
footprint SSOP_28_5.3mm (/ 20190225 / C-A.Serna.A)
pins: 1 TXD (out), 2 DTR# (out), 3 RTS# (out), 4 VCCIO, 5 RXD (in), 6 RI# (in), 7 GND (power), 8 NC, 9 DSR# (in), 10 DCD# (in), 11 CTS# (in), 12 SLEEP# (io), 13 TXDEN (io), 14 PWREN# (io), 15 USBDP (io), 16 USBDM (io), 17 3V3OUT (out), 18 GND (power), 19 RESET# (in), 20 VCC (power), 21 GND (power), 22 RXLED# (io), 23 TXLED# (io), 24 NC, 25 AGND (power), 26 TEST (in), 27 XTIN (in), 28 XTOUT (out)

## IC_FTDI_SERIAL_USB2UART_64_LQFP
designator U?, comment FT4232HL
IC USB HS QUAD UART/SYNC 64-LQFP; Manufacturer Part Number: FT4232HL-REEL; Manufacturer: FTDI; Reel Stock: N/A; Last modified by: J.Jaramillo; Last modified date: 20240310; Supplier 1: Digi-Key; Supplier Part Number 1: 768-1026-1-ND; ComponentLink1Description: Digi-key; ComponentLink1URL: https://www.digikey.ca/product-detail/en/ftdi-future-technology-devices-international-ltd/FT4232HL-REEL/768-1026-1-ND/1986059
footprint LQFP-64_10X10MM (64-LQFP/ 20210809/C-D Viveros)
pins: 1 GND (power), 2 OSCI (in), 3 OSCO (out), 4 VPHY (power), 5 GND (power), 6 REF (in), 7 DM (in), 8 DP (in), 9 VPLL (power), 10 AGND (power), 11 GND (power), 12 VCORE (power), 13 TEST (in), 14 RESET# (in), 15 GND (power), 16 ADBUS0 (io), 17 ADBUS1 (io), 18 ADBUS2 (io), 19 ADBUS3 (io), 20 VCCIO (power), 21 ADBUS4 (io), 22 ADBUS5 (io), 23 ADBUS6 (io), 24 ADBUS7 (io), 25 GND (power), 26 BDBUS0 (io), 27 BDBUS1 (io), 28 BDBUS2 (io), 29 BDBUS3 (io), 30 BDBUS4 (io), 31 VCCIO (power), 32 BDBUS5 (io), 33 BDBUS6 (io), 34 BDBUS7 (io), 35 GND (power), 36 SUSPEND# (out), 37 VCORE (power), 38 CDBUS0 (io), 39 CDBUS1 (io), 40 CDBUS2 (io), 41 CDBUS3 (io), 42 VCCIO (power), 43 CDBUS4 (io), 44 CDBUS5 (io), 45 CDBUS6 (io), 46 CDBUS7 (io), 47 GND (power), 48 DDBUS0 (io), 49 VREGOUT (power), 50 VREGIN (power), 51 GND (power), 52 DDBUS1 (io), 53 DDBUS2 (io), 54 DDBUS3 (io), 55 DDBUS4 (io), 56 VCCIO (power), 57 DDBUS5 (io), 58 DDBUS6 (io), 59 DDBUS7 (io), 60 PWREN# (out), 61 EEDATA (io), 62 EECLK (out), 63 EECS (io), 64 VCORE (power)

## IC_FUELGAUGE_BQ27411_12SON
designator U?, comment BQ27411DRZR-G1C
IC BATT FUEL GAUGE LICOO2 12SON; Manufacturer: Texas Instruments; Manufacturer Part Number: BQ27411DRZR-G1C; Supplier 1: Digi-Key; Supplier Part Number 1: 296-39936-1-ND; Reel Stock: N/A; Last modified by: J.Jaramillo; Last modified date: 20240310; ComponentLink1Description: Digi-Key; ComponentLink1URL: https://www.digikey.com/en/products/detail/texas-instruments/BQ27411DRZR-G1C/4701492?s=N4IgTCBcDaIAUCECKYDsAWAjJgIgJQC08BaAcUwGEQBdAXyA
footprint 12-VFDFN_EP_2.5X4MM (12-SON/20220531/N-A.Potosi)
pins: 1 SDA (io), 2 SCL (in), 3 VSS (power), 4 NC, 5 VDD (power), 6 BAT, 7 SRN (in), 8 SRP (in), 9 NC, 10 TEST (in), 11 NC, 12 PROG (out), 13 EPAD

## IC_GATE_AND_1CH
designator U?, comment AND
IC GATE AND 1CH 2-INP SOT23-5; Manufacturer: Texas Instruments; Manufacturer Part Number: SN74LV1T08DBVR; Supplier 1: Digi-Key; Supplier Part Number 1: 296-39210-1-ND; Reel Stock: N/A; Last modified by: J.Jaramillo; Last modified date: 20240310; ComponentLink1Description: Digi-Key; ComponentLink1URL: https://www.digikey.com/en/products/detail/texas-instruments/SN74LV1T08DBVR/4437956
footprint SOT_23_5 (/ 20220804/ J-E.Pachon)
pins: 1 A, 2 B, 3 GND, 4 Y, 5 VCC (power)

## IC_GATE_AND_4CH
designator U?, comment AND 4CH
IC GATE AND 4CH 2-INP 14TSSOP; Manufacturer: Nexperia USA Inc.; Manufacturer Part Number: 74LVC08APW,118; Supplier 1: Digi-Key; Supplier Part Number 1: 1727-4305-1-ND; Reel Stock: N/A; Last modified by: J.Jaramillo; Last modified date: 20240310; ComponentLink1Description: Digi-Key; ComponentLink1URL: https://www.digikey.com/products/en?keywords=1727-4305-1-ND
footprint TSSOP_14_4X4MM (/ 20210809 / C-A.Serna.A)
part A pins: 1 1A, 2 1B, 3 1Y, 7 GND, 14 VCC
part B pins: 4 2A, 5 2B, 6 2Y
part C pins: 8 3Y, 9 3A, 10 3B
part D pins: 11 4Y, 12 4A, 13 4B

## IC_GATE_DRVE_LTC1982ES6#TRMPBF
designator U?, comment LTC1982ES6#TRMPBF
IC GATE DRVR HIGH-SIDE SOT23-6; Manufacturer: Analog Devices Inc.; Manufacturer Part Number: LTC1982ES6#TRMPBF; Supplier 1: Digi-Key; Supplier Part Number 1: LTC1982ES6#TRMPBFCT-ND; Reel Stock: N/A; Last modified by: J.Jaramillo; Last modified date: 20240310; ComponentLink1Description: Digi-Key; ComponentLink1URL: https://www.digikey.com/en/products/detail/analog-devices-inc/LTC1982ES6-TRMPBF/1115920?s=N4IgTCBcDaIDIBUDCBGAnADjAUQMoDYBiBAJQFkAFAIQDEQBdAXyA
footprint SOT_23_6 (/ 20190225 / C-A.Serna.A)
pins: 1 ~{SHDN1}, 2 GND, 3 ~{SHDN2}, 4 GATE2, 5 GATE1, 6 VCC

## IC_GATE_NAND_1CH
designator U?, comment NAND
IC GATE NAND 1CH 2-INP 5TSOP; Manufacturer: Nexperia USA Inc.; Manufacturer Part Number: 74LVC1G00GV,125; Supplier 1: Digi-Key; Supplier Part Number 1: 1727-6061-1-ND; Reel Stock: N/A; Last modified by: J.Jaramillo; Last modified date: 20240310; ComponentLink1Description: Digi-Key; ComponentLink1URL: https://www.digikey.com/product-detail/en/nexperia-usa-inc/74LVC1G00GV-125/1727-6061-1-ND/2753897
footprint SOT_753 (SOT-23-5, SC-74A / 20190225 / C-A.Serna.A)
pins: 1 B, 2 A, 3 GND, 4 Y, 5 VCC

## IC_GATE_NAND_1CH_SCHMITT
designator U?, comment NAND Gate IC 1 Channel
IC GATE NAND 1CH 2-INP SC70-5; Manufacturer: Texas Instruments; Manufacturer Part Number: SN74LV1T00DCKR; Supplier 1: Digi-key; Supplier Part Number 1: 296-40544-1-ND; Reel Stock: N/A; Last modified by: J.Jaramillo; Last modified date: 20240310; ComponentLink1Description: Digi-key; ComponentLink1URL: https://www.digikey.com/products/en?keywords=296-40544-1-ND
footprint SC_70_5 (SC-70-5, TSSOP-5, SOT-353 / 20190225 / C-A.Serna.A)
pins: 1 A (in), 2 B (in), 3 GND (power), 4 OUT2 (out), 5 VCC (power)

## IC_GATE_OR_1CH
designator U?, comment OR
IC GATE OR 1CH 2-INP 5TSSOP; Manufacturer: Nexperia USA Inc.; Manufacturer Part Number: 74LVC1G32GW,125; Supplier 1: Digi-Key; Supplier Part Number 1: 1727-3102-1-ND; Reel Stock: N/A; Last modified by: J.Jaramillo; Last modified date: 20240310; ComponentLink1Description: Digi-Key; ComponentLink1URL: https://www.digikey.com/product-detail/en/nexperia-usa-inc/74LVC1G32GW-125/1727-3102-1-ND/946759
footprint SC_70_5 (SC-70-5, TSSOP-5, SOT-353 / 20190225 / C-A.Serna.A)
pins: 1 B, 2 A, 3 GND, 4 Y, 5 VCC

## IC_GATE_OR_4CH
designator U?, comment 4 x OR GATE
IC LOGIC GATE; Manufacturer: Texas Instruments; Manufacturer Part Number: SN74HCS32QDRQ1; Supplier 1: Digi-Key; Supplier Part Number 1: 296-SN74HCS32QDRQ1CT-ND; Reel Stock: N/A; Last modified by: J.Jaramillo; Last modified date: 20240310; ComponentLink1Description: Digi-Key; ComponentLink1URL: https://www.digikey.com/en/products/detail/texas-instruments/SN74HCS32QDRQ1/10715529?s=N4IgTCBcDaIMoDkDsAWAEgYTgZjARQBEAlPARhAF0BfIA
footprint SOIC_14_3.9mm (SO_14 / 20190225 / C-A.Serna.A)
pins: 1 A1, 2 B1, 3 Y1, 4 A2, 5 B2, 6 Y2, 7 GND, 8 Y3, 9 A3, 10 B3, 11 Y4, 12 A4, 13 B4, 14 VCC

## IC_HDC1080_TEMP_HUMI_SENSOR_6WSON
designator U?, comment HDC1080DMBT
SENSOR HUMI/TEMP 3.3V I2C 2% SMD; Manufacturer: Texas Instruments; Manufacturer Part Number: HDC1080DMBT; Supplier 1: Digi-Key; Supplier Part Number 1: 296-43864-1-ND; Reel Stock: N/A; Last modified by: J.Jaramillo; Last modified date: 20240310; ComponentLink1Description: Digi-Key; ComponentLink1URL: https://www.digikey.com/en/products/detail/texas-instruments/HDC1080DMBT/5864876?s=N4IgTCBcDa4JwDYC0AWAzADgSpBGJAcgCIgC6AvkA
footprint WSON_6_3X3MM_EP (WDFN-6 / 20201125 / C-D Viveros)
pins: 1 SDA (io), 2 GND, 3 NC, 4 NC, 5 VDD, 6 SCL (in), 7 EP

## IC_HEX-SCHMITT-INVERTER_14-TSSOP
designator U?, comment SN74HC14PW
IC INVERTER 6CH 1-INP 14TSSOP; Manufacturer: Texas Instruments; Manufacturer Part Number: SN74HC14PW; Supplier 1: Digi-Key; Supplier Part Number 1: 296-26469-5-ND; Reel Stock: N/A; Last modified by: J.Jaramillo; Last modified date: 20240310; ComponentLink1Description: Digi-Key; ComponentLink1URL: https://www.digikey.com/products/en?keywords=296-26469-5-ND
footprint TSSOP_14_4X4MM (/ 20210809 / C-A.Serna.A)
pins: 1 1A (in), 2 1Y (out), 3 2A (in), 4 2Y (out), 5 3A (in), 6 3Y (out), 7 GND (power), 8 4Y (out), 9 4A (in), 10 5Y (out), 11 5A (in), 12 6Y (out), 13 6A (in), 14 VCC (power)

## IC_HITAG_READER
designator U?, comment HTRC110
IC RFID HITAG READER 14-SOIC; Manufacturer: NXP Semiconductors; Manufacturer Part Number: HTRC11001T/03EE,11; Reel Stock: N/A; Last modified by: J.Jaramillo; Last modified date: 20240310; Supplier Part Number 1: 568-2207-1-ND; Supplier 1: Digi-Key; ComponentLink1Description: Digi-Key; ComponentLink1URL: https://www.digikey.com/en/products/detail/nxp-usa-inc/HTRC11001T-03EE-11/892934?s=N4IgTCBcDaIKwDYAcBaMYAMB2FBGFAcgCIgC6AvkA
footprint SOIC_14_3.9mm (SO_14 / 20190225 / C-A.Serna.A)
pins: 1 VSS  (power), 2 TX2 (out), 3 VDD (power), 4 TX1 (out), 5 MODE, 6 XTAL1 (in), 7 XTAL2 (out), 8 SCLK (in), 9 DIN (in), 10 DOUT (out), 11 NC, 12 CEXT (out), 13 QGND (power), 14 RX (in)

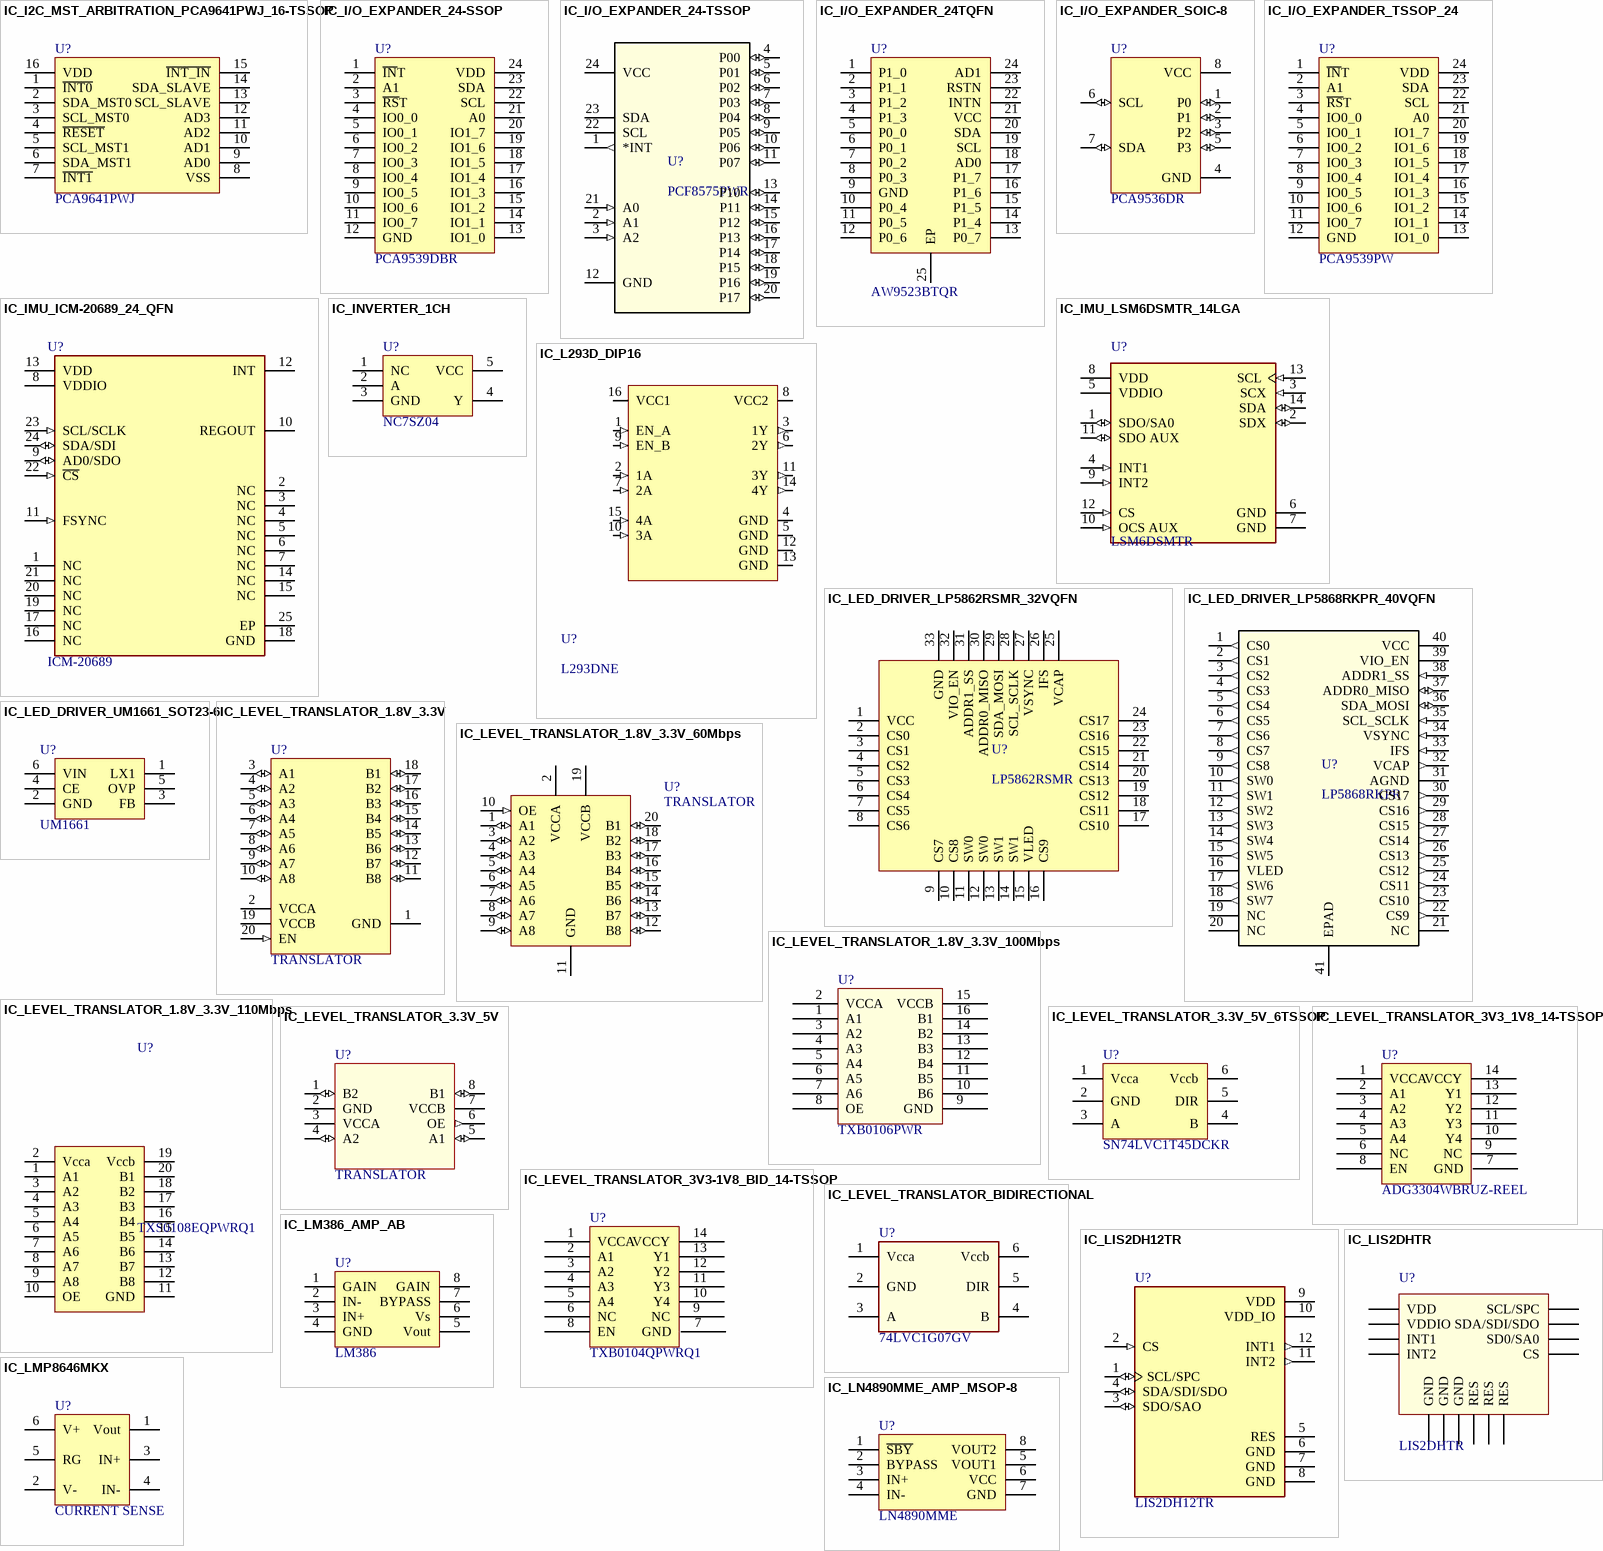
[diagram p4: symbols IC_I2C_MST_ARBITRATION_PCA9641PWJ_16-TSSOP to IC_LN4890MME_AMP_MSOP-8]

## IC_I2C_MST_ARBITRATION_PCA9641PWJ_16-TSSOP
designator U?, comment PCA9641PWJ
IC DEMUX 2CHAN 16TSSOP; Manufacturer: NXP USA Inc.; Manufacturer Part Number: PCA9641PWJ; Supplier 1: Digi-Key; Supplier Part Number 1: 568-12402-1-ND; Reel Stock: N/A; Last modified by: J.Jaramillo; Last modified date: 20240310; ComponentLink1Description: Digi-Key; ComponentLink1URL: https://www.digikey.com/en/products/detail/nxp-usa-inc/PCA9641PWJ/5035753?s=N4IgTCBcDaIAoGECCBOAbAFgIxwOoCkQBdAXyA
footprint TSSOP_16_4.40MM (/ 20190923 / C-D Viveros)
pins: 1 ~{INT0}, 2 SDA_MST0, 3 SCL_MST0, 4 ~{RESET}, 5 SCL_MST1, 6 SDA_MST1, 7 ~{INT1}, 8 VSS, 9 AD0, 10 AD1, 11 AD2, 12 AD3, 13 SCL_SLAVE, 14 SDA_SLAVE, 15 ~{INT_IN}, 16 VDD

## IC_I/O_EXPANDER_24-SSOP
designator U?, comment PCA9539DBR
IC I/O EXPANDER I2C 16B 24SSOP; Manufacturer: Texas Instruments; Manufacturer Part Number: PCA9539DBR; Supplier 1: Digi-key; Supplier Part Number 1: 296-20953-1-ND; Reel Stock: N/A; Last modified by: J.Jaramillo; Last modified date: 20240310; ComponentLink1Description: Digi-Key; ComponentLink1URL: https://www.digikey.com/en/products/detail/texas-instruments/PCA9539DBR/1216559
footprint SSOP_24_5.30MM (/20210702/M-C.Calderon)
pins: 1 ~{IN}T, 2 A1, 3 ~{RS}T, 4 IO0_0, 5 IO0_1, 6 IO0_2, 7 IO0_3, 8 IO0_4, 9 IO0_5, 10 IO0_6, 11 IO0_7, 12 GND, 13 IO1_0, 14 IO1_1, 15 IO1_2, 16 IO1_3, 17 IO1_4, 18 IO1_5, 19 IO1_6, 20 IO1_7, 21 A0, 22 SCL, 23 SDA, 24 VDD

## IC_I/O_EXPANDER_24-TSSOP
designator U?, comment PCF8575PWR
IC XPND 400KHZ I2C SMBUS 24TSSOP; Manufacturer: Texas Instruments; Manufacturer Part Number: PCF8575PWR; Supplier 1: Digi-Key; Supplier Part Number 1: 296-17807-1-ND; Reel Stock: N/A; Last modified by: J.Jaramillo; Last modified date: 20240310; ComponentLink1Description: Digi-Key; ComponentLink1URL: https://www.digikey.com/en/products/detail/texas-instruments/PCF8575PWR/720860
footprint TSSOP_24_4.40MM (24-TSSOP /20200212/ N-A.Potosi)
pins: 1 *INT (out), 2 A1 (in), 3 A2 (in), 4 P00 (io), 5 P01 (io), 6 P02 (io), 7 P03 (io), 8 P04 (io), 9 P05 (io), 10 P06 (io), 11 P07 (io), 12 GND (power), 13 P10 (io), 14 P11 (io), 15 P12 (io), 16 P13 (io), 17 P14 (io), 18 P15 (io), 19 P16 (io), 20 P17 (io), 21 A0 (in), 22 SCL, 23 SDA, 24 VCC (power)

## IC_I/O_EXPANDER_24TQFN
designator U?, comment AW9523BTQR
Manufacturer: AWINIC(Shanghai Awinic Tech); Manufacturer Part Number: AW9523BTQR; Supplier 1: LCSC; Supplier Part Number 1: C148077; Reel Stock: N/A; Last modified by: J.Jaramillo; Last modified date: 20240310; ComponentLink1Description: LCSC; ComponentLink1URL: https://lcsc.com/product-detail/Interface-I-O-Expanders_AWINIC-Shanghai-Awinic-Tech-AW9523BTQR_C148077.html
footprint TQFN_24_EP_4X4MM (/20210809/V-A.patino)
pins: 1 P1_0, 2 P1_1, 3 P1_2, 4 P1_3, 5 P0_0, 6 P0_1, 7 P0_2, 8 P0_3, 9 GND, 10 P0_4, 11 P0_5, 12 P0_6, 13 P0_7, 14 P1_4, 15 P1_5, 16 P1_6, 17 P1_7, 18 AD0, 19 SCL, 20 SDA, 21 VCC, 22 INTN, 23 RSTN, 24 AD1, 25 EP

## IC_I/O_EXPANDER_SOIC-8
designator U?, comment PCA9536DR
IC I/O EXPANDER I2C 4B 8SOIC; Manufacturer: Texas Instruments; Manufacturer Part Number: PCA9536DR; Supplier 1: Digi-Key; Supplier Part Number 1: 296-21765-1-ND; Reel Stock: N/A; Last modified by: J.Jaramillo; Last modified date: 20240310; ComponentLink1Description: Digi-Key; ComponentLink1URL: https://www.digikey.com/en/products/detail/texas-instruments/PCA9536DR/1573050
footprint SOIC_8_3.9mm (/ 20190225 / C-A.Serna.A)
pins: 1 P0 (io), 2 P1 (io), 3 P2 (io), 4 GND (power), 5 P3 (io), 6 SCL (io), 7 SDA (io), 8 VCC (power)

## IC_I/O_EXPANDER_TSSOP_24
designator U?, comment PCA9539PW
16 I2C, SMBus POR 400kHz TSSOP-24 Interface - I/O Expanders RoHS; Manufacturer: NXP Semicon; Manufacturer Part Number: PCA9539PW; Supplier 1: LCSC; Supplier Part Number 1: C129516; Reel Stock: N/A; Last modified by: J.Jaramillo; Last modified date: 20240310; ComponentLink1Description: LCSC; ComponentLink1URL: https://lcsc.com/product-detail/Interface-I-O-Expanders_NXP-Semicon-PCA9539PW_C129516.html
footprint TSSOP_24_4.40MM (24-TSSOP /20200212/ N-A.Potosi)
pins: 1 ~{IN}T, 2 A1, 3 ~{RS}T, 4 IO0_0, 5 IO0_1, 6 IO0_2, 7 IO0_3, 8 IO0_4, 9 IO0_5, 10 IO0_6, 11 IO0_7, 12 GND, 13 IO1_0, 14 IO1_1, 15 IO1_2, 16 IO1_3, 17 IO1_4, 18 IO1_5, 19 IO1_6, 20 IO1_7, 21 A0, 22 SCL, 23 SDA, 24 VDD

## IC_IMU_ICM-20689_24_QFN
designator U?, comment ICM-20689
IMU ACCEL/GYRO/TEMP I2C/SPI QFN; Manufacturer: TDK InvenSense; Manufacturer Part Number: ICM-20689; Supplier 1: Digi-key; Supplier Part Number 1: 1428-1059-1-ND; Reel Stock: N/A; Last modified by: J.Jaramillo; Last modified date: 20240310; ComponentLink1Description: Digi-key; ComponentLink1URL: https://www.digikey.com/en/products/detail/tdk-invensense/ICM-20689/5872869
footprint VQFN_24_EP_4X4MM (24-VQFN EP / 20210809 / N-A.Potosi)
pins: 1 NC, 2 NC, 3 NC, 4 NC, 5 NC, 6 NC, 7 NC, 8 VDDIO (power), 9 AD0/SDO (io), 10 REGOUT, 11 FSYNC (in), 12 INT (oc), 13 VDD (power), 14 NC, 15 NC, 16 NC, 17 NC, 18 GND (power), 19 NC, 20 NC, 21 NC, 22 ~{CS} (in), 23 SCL/SCLK (in), 24 SDA/SDI (io), 25 EP

## IC_IMU_LSM6DSMTR_14LGA
designator U?, comment LSM6DSMTR
IMU ACCEL/GYRO I2C/SPI 14LGA; Manufacturer: STMicroelectronics; Manufacturer Part Number: LSM6DSMTR; Supplier 1: Digikey; Supplier Part Number 1: 497-16696-1-ND; Reel Stock: N/A; Last modified by: J.Jaramillo; Last modified date: 20240310; ComponentLink1Description: Digi-key; ComponentLink1URL: https://www.digikey.com/en/products/detail/stmicroelectronics/LSM6DSMTR/6192777?s=N4IgTCBcDaIDIGUCyA2AIsgKgJRAXQF8g
footprint 14_LGA_2.5X3MM (/20210809/V-A.Patino)
pins: 1 SDO/SA0 (io), 2 SDX (io), 3 SCX (in), 4 INT1 (in), 5 VDDIO (power), 6 GND (power), 7 GND (power), 8 VDD (power), 9 INT2 (in), 10 OCS AUX (in), 11 SDO AUX (io), 12 CS (in), 13 SCL (in), 14 SDA (io)

## IC_INVERTER_1CH
designator U?, comment NC7SZ04
IC INVERTER 1CH 1-INP SC70-5; Manufacturer: ON Semiconductor; Manufacturer Part Number: NC7SZ04P5X; Supplier 1: Digi-Key; Supplier Part Number 1: NC7SZ04P5XCT-ND; Reel Stock: N/A; Last modified by: J.Jaramillo; Last modified date: 20240310; ComponentLink1Description: Digi-Key; ComponentLink1URL: https://www.digikey.com/product-detail/en/on-semiconductor/NC7SZ04P5X/NC7SZ04P5XCT-ND/965689
footprint SC_70_5 (SC-70-5, TSSOP-5, SOT-353 / 20190225 / C-A.Serna.A)
pins: 1 NC, 2 A, 3 GND, 4 Y, 5 VCC

## IC_L293D_DIP16
designator U?, comment L293DNE
IC MTR DRV BIPOLAR 4.5-36V 16DIP; Manufacturer: Texas Instruments; Manufacturer Part Number: L293DNE; Supplier 1: Digi-Key; Supplier Part Number 1: 296-9518-5-ND; Reel Stock: N/A; Last modified by: J.Jaramillo; Last modified date: 20240407; ComponentLink1Description: Digi-Key; ComponentLink1URL: https://www.digikey.com/en/products/detail/texas-instruments/L293DNE/379724
footprint DIP16-2.54mm (/20240331/ J.Jaramillo)
pins: 1 EN_A (in), 2 1A (in), 3 1Y (out), 4 GND (power), 5 GND (power), 6 2Y (out), 7 2A (in), 8 VCC2 (power), 9 EN_B (in), 10 3A (in), 11 3Y (out), 12 GND (power), 13 GND (power), 14 4Y (out), 15 4A (in), 16 VCC1 (power)

## IC_LED_DRIVER_LP5862RSMR_32VQFN
designator U?, comment LP5862RSMR
2  18 LED MATRIX DRIVER WITH 8-B; Manufacturer: Texas Instruments; Manufacturer Part Number: LP5862RSMR; Supplier 1: Digi-Key; Supplier Part Number 1: 296-LP5862RSMRCT-ND; Reel Stock: N/A; Last modified by: J.Jaramillo; Last modified date: 20240310; ComponentLink1Description: Digi-Key; ComponentLink1URL: https://www.digikey.com/en/products/detail/texas-instruments/LP5862RSMR/18159106?s=N4IgTCBcDaIDIAUCsAOAbGASgZQLKZAF0BfIA
footprint VQFN_32_EP_4X4MM (/20230725/J-A.Sepulveda)
pins: 1 VCC, 2 CS0, 3 CS1, 4 CS2, 5 CS3, 6 CS4, 7 CS5, 8 CS6, 9 CS7, 10 CS8, 11 SW0, 12 SW0, 13 SW1, 14 SW1, 15 VLED, 16 CS9, 17 CS10, 18 CS11, 19 CS12, 20 CS13, 21 CS14, 22 CS15, 23 CS16, 24 CS17, 25 VCAP, 26 IFS, 27 VSYNC, 28 SCL_SCLK, 29 SDA_MOSI, 30 ADDR0_MISO, 31 ADDR1_SS, 32 VIO_EN, 33 GND

## IC_LED_DRIVER_LP5868RKPR_40VQFN
designator U?, comment LP5868RKPR
IC LED DRVR LIN PWM 50MA 40VQFN; Manufacturer: Texas Instruments; Manufacturer Part Number: LP5868RKPR; Supplier 1: Digi-Key; Supplier Part Number 1: 296-LP5868RKPRCT-ND; Reel Stock: N/A; Last modified by: J.Jaramillo; Last modified date: 20240310; ComponentLink1Description: Digi-Key; ComponentLink1URL: https://www.digikey.com/en/products/detail/texas-instruments/LP5868RKPR/15857091?s=N4IgTCBcDaIDIAUCsAOAbCkBdAvkA; ComponentLink2Description: Datasheet; ComponentLink2URL: https://www.ti.com/lit/ds/symlink/lp5868.pdf
footprint VQFN_40_EP_5x5mm (/20230727/J-A.Sepulveda)
pins: 1 CS0 (out), 2 CS1 (out), 3 CS2 (out), 4 CS3 (out), 5 CS4 (out), 6 CS5 (out), 7 CS6 (out), 8 CS7 (out), 9 CS8 (out), 10 SW0 (out), 11 SW1 (out), 12 SW2 (out), 13 SW3 (out), 14 SW4 (out), 15 SW5 (out), 16 VLED (power), 17 SW6 (out), 18 SW7 (out), 19 NC, 20 NC, 21 NC, 22 CS9 (out), 23 CS10 (out), 24 CS11 (out), 25 CS12 (out), 26 CS13 (out), 27 CS14 (out), 28 CS15 (out), 29 CS16 (out), 30 CS17 (out), 31 AGND (power), 32 VCAP (out), 33 IFS (in), 34 VSYNC (in), 35 SCL_SCLK (in), 36 SDA_MOSI (io), 37 ADDR0_MISO (io), 38 ADDR1_SS (in), 39 VIO_EN (power), 40 VCC (power), 41 EPAD (power)

## IC_LED_DRIVER_UM1661_SOT23-6
designator U?, comment UM1661
IC LED DRIVER SOT23-6; Manufacturer: Union Semiconductor; Manufacturer Part Number: UM1661; Supplier 1: Poshton; Supplier Part Number 1: UM1661; Reel Stock: N/A; Last modified by: J.Jaramillo; Last modified date: 20240310; ComponentLink1Description: Datasheet; ComponentLink1URL: http://www.union-ic.com/index.aspx?cat_code=LEDBacklightBoostDriver&article_id=1512
footprint SOT_23_6 (/ 20190225 / C-A.Serna.A)
pins: 1 LX1, 2 GND, 3 FB, 4 CE, 5 OVP, 6 VIN